# Altium footprint library shield_components.PcbLib: 4 footprints
Each footprint in its own frame and in the unit in brackets; x right, y up, seen from the top. Pads: shape width x height; smd on the part's side, far side on the other; paste and mask are expansions set on the pad; w line width, h text height; cw(c..) or ccw(c..) is an arc to the next point about the centre after c.
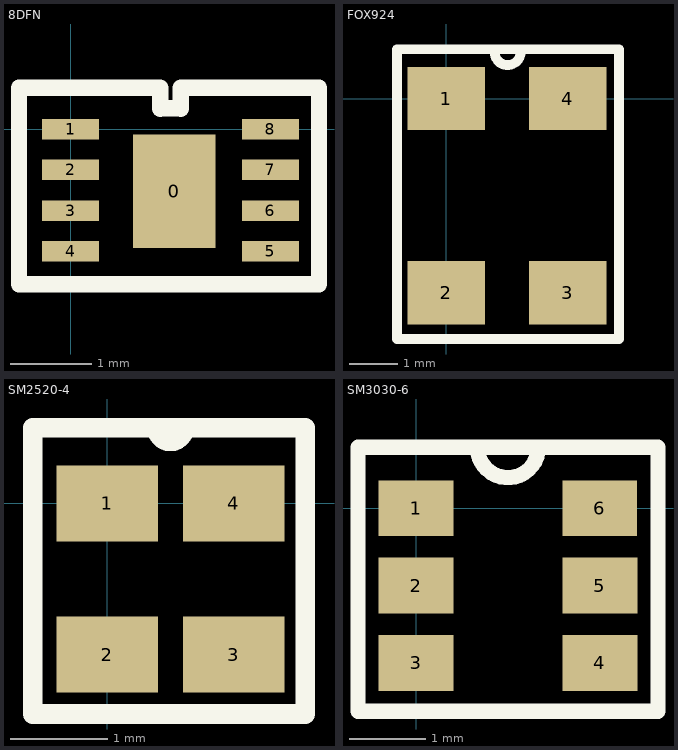
[diagram p0: the footprints below, top view; thin cyan lines are the x and y axes]

## 8DFN [mm]
pads (9):
  rect 1.016x1.397 smd: 0(1.27,-0.762)
  rect 0.7x0.25 smd: 1(0,0) 2(0,-0.5) 3(0,-1) 4(0,-1.5) 5(2.45,-1.5) 6(2.45,-1) 7(2.45,-0.5) 8(2.45,0)
Top Overlay:
  lines w0.2: -0.635,-1.905 -0.635,0.508 1.1,0.508 1.1,0.25 cw(c1.225,-0.86) 1.35,0.25 1.35,0.508 3.048,0.508 3.048,-1.905 -0.635,-1.905

## FOX924 [mm]
pads (4):
  rect 1.6x1.3 smd: 1(0,0) 2(0,-4) 3(2.5,-4) 4(2.5,0)
Top Overlay:
  lines w0.2: 0.998,1.012 ccw(c1.261,0.959) 1.524,1.016 ; 1.266,1.016 -1.016,1.016 -1.016,-4.953 3.556,-4.953 3.556,1.016 1.27,1.016

## SM2520-4 [mm]
pads (4):
  rect 1.04x0.78 smd: 1(0,0) 2(0,-1.55) 3(1.3,-1.55) 4(1.3,0)
Top Overlay:
  lines w0.2: 0.262,0.775 2.032,0.775 2.032,-2.159 -0.762,-2.159 -0.762,0.775 1.037,0.775 ; 0.509,0.775 ccw(c0.65,0.775) 0.791,0.775

## SM3030-6 [mm]
pads (6):
  rect 0.98x0.73 smd: 1(0,0) 2(0,-1.016) 3(0,-2.032) 4(2.413,-2.032) 5(2.413,-1.016) 6(2.41,0)
Top Overlay:
  lines w0.2: -0.762,-2.667 3.175,-2.667 3.175,0.8 0.805,0.8 ccw(c1.205,0.8) 1.605,0.8 -0.762,0.8 -0.762,-2.667